# Altium footprint library MCU.PcbLib: 15 footprints
Each footprint in its own frame and in the unit in brackets; x right, y up, seen from the top. Pads: shape width x height; smd on the part's side, far side on the other; paste and mask are expansions set on the pad; w line width, h text height; cw(c..) or ccw(c..) is an arc to the next point about the centre after c.
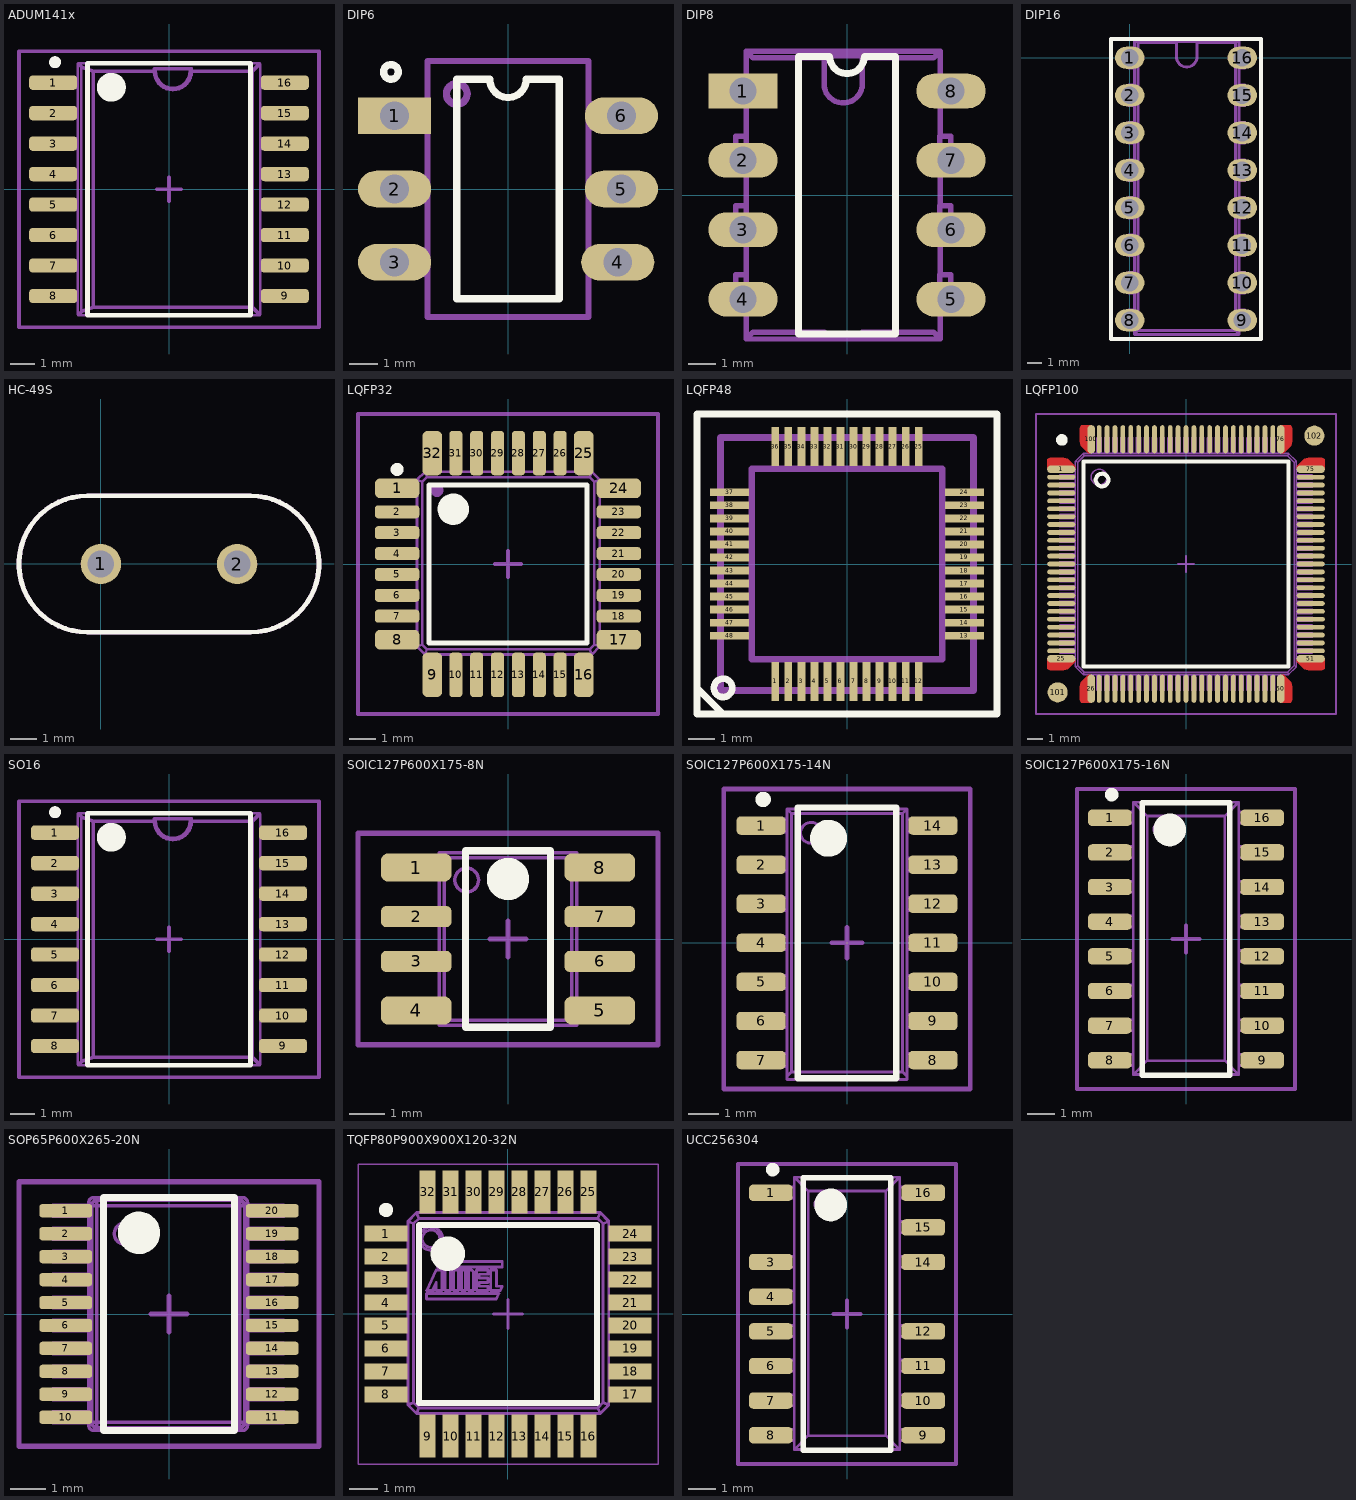
[diagram p0: the footprints below, top view; thin cyan lines are the x and y axes]

## ADUM141x [mm] "SOIC, 16-Leads, Body 10,30x7,50mm, Pitch 1,27mm, IPC Medium Density"
height 2.65
pads (16):
  rrect50% 2x0.6 smd: 1(-4.826,4.445) 2(-4.826,3.175) 3(-4.826,1.905) 4(-4.826,0.635) 5(-4.826,-0.635) 6(-4.826,-1.905) 7(-4.826,-3.175) 8(-4.826,-4.445) 9(4.826,-4.445) 10(4.826,-3.175) 11(4.826,-1.905) 12(4.826,-0.635) 13(4.826,0.635) 14(4.826,1.905) 15(4.826,3.175) 16(4.826,4.445)
Top Overlay:
  circle w0.25: c-4.75,5.295 r0.125
  circle w0.6: c-2.4,4.25 r0.3
  lines w0.2: -3.4,-5.25 -3.4,5.25 3.4,5.25 3.4,-5.25 -3.4,-5.25
TOPASSY:
  text ".Designator / .Comment" at -2.262,1.659 h1.02
Mechanical 13:
  drawing of 1172 lines, arcs and shapes, not listed
Mechanical 15:
  lines w0.15: -0.5,0 0.5,0 ; 0,-0.5 0,0.5 ; -6.25,-5.75 -6.25,5.75 6.25,5.75 6.25,-5.75 -6.25,-5.75
3D body "User Library-141x.step": height 2.5, standoff 0, extent -5.25,-5.25 5.25,5.25

## DIP6 [mm]
pads (6):
  rect 2.54x1.27 hole 1: 1(-3.937,2.54)
  oval 2.54x1.27 hole 1: 2(-3.937,0) 3(-3.937,-2.54) 4(3.81,-2.54) 5(3.937,0) 6(3.937,2.54)
Top Overlay:
  circle w0.254: c-4.064,4.064 r0.254
  lines w0.254: -1.778,-3.81 1.778,-3.81 1.778,3.81 0.635,3.81 cw(c0,3.81) -0.635,3.81 -1.778,3.81 -1.778,-3.81
TOPASSY:
  text ".Designator / .Comment" at 0.762,-2.159 h1.02
Mechanical 13:
  circle w0.254: c-1.778,3.302 r0.359
  rectangle: -4.318,2.032 -2.794,3.048
  rectangle: -4.318,-0.508 -2.794,0.508
  rectangle: -4.318,-3.048 -2.794,-2.032
  region: 4.318,0.508 2.794,0.508 2.794,-0.508 4.318,-0.508
  region: 4.318,-2.032 2.794,-2.032 2.794,-3.048 4.318,-3.048
  region: 4.318,3.048 2.794,3.048 2.794,2.032 4.318,2.032
  lines w0.2: -2.794,-4.445 -2.794,4.445 2.794,4.445 2.794,-4.445 -2.794,-4.445
3D body "User Library-MOC8050SR2M.STEP": height 4.03, standoff -1.09, extent -4.952,-4.445 4.952,4.445

## DIP8 [mm]
pads (8):
  rect 2.54x1.27 hole 1: 1(-3.81,3.81)
  oval 2.54x1.27 hole 1: 2(-3.81,1.27) 3(-3.81,-1.27) 4(-3.81,-3.81) 5(3.81,-3.81) 6(3.81,-1.27) 7(3.81,1.27) 8(3.81,3.81)
Top Overlay:
  lines w0.254: -1.778,-5.08 1.778,-5.08 1.778,5.08 0.635,5.08 cw(c0,5.08) -0.635,5.08 -1.778,5.08 -1.778,-5.08
TOPASSY:
  text ".Designator / .Comment" at 0.762,-2.159 h1.02
Mechanical 13:
  lines w0.2: -3.69,-4.315 -4.075,-4.315 ; -3.69,-3.88 -3.69,-5.27 ; 3.41,-4.315 3.795,-4.315 ; 3.41,-3.88 3.41,-5.27 ; -4.075,-4.315 -3.681,-4.315 -3.681,-2.925 -4.075,-2.925 ; -4.075,-4.315 -4.075,-2.925 ; -4.075,-4.315 -4.075,-2.925 ; -4.075,-2.925 -3.69,-2.925 ; -4.075,-1.775 -3.681,-1.775 -3.681,-0.385 -4.075,-0.385 ; -4.075,-1.775 -4.075,-0.385 ; -4.075,-1.775 -4.075,-0.385 ; -4.075,-1.775 -3.69,-1.775 ; -4.075,-0.385 -3.69,-0.385 ; -4.075,0.765 -3.681,0.765 -3.681,2.155 -4.075,2.155 ; -4.075,0.765 -4.075,2.155 ; -4.075,0.765 -4.075,2.155 ; -4.075,0.765 -3.69,0.765 ; -4.075,2.155 -3.69,2.155 ; -4.075,3.305 -3.681,3.305 -3.681,4.25 -4.075,4.25 ; -4.075,3.305 -4.075,4.25 ; -4.075,3.305 -4.075,4.25 ; -4.075,3.305 -3.69,3.305 ; -4.075,4.25 -3.69,4.25 ; -3.69,-5.27 3.41,-5.27 ; -3.69,-5.27 -3.44,-5.02 -0.84,-5.02 -0.84,-5.107 0.56,-5.107 0.56,-5.02 3.16,-5.02 3.41,-5.27 ; -3.69,-5.27 3.41,-5.27 ; -3.69,-2.925 -3.69,-1.775 ; -3.69,-2.925 -3.69,-1.775 ; -3.69,-0.385 -3.69,0.765 ; -3.69,-0.385 -3.69,0.765 ; -3.69,2.155 -3.69,3.305 ; -3.69,2.155 -3.69,3.305 ; -3.69,4.25 -3.69,5.27 ; -3.69,4.25 -3.69,5.27 ; -3.69,5.27 3.41,5.27 ; -3.69,5.27 -3.44,5.02 -0.84,5.02 ; -3.69,5.27 3.41,5.27 ; -0.84,5.02 -0.84,5.107 0.56,5.107 0.56,5.02 ; -0.84,5.02 -0.84,4.07 ccw(c-0.14,4.07) 0.56,4.07 0.56,5.02 ; 0.56,5.02 3.16,5.02 3.41,5.27 ; 3.41,-2.925 3.41,-1.775 ; 3.41,-2.925 3.795,-2.925 ; 3.41,-2.925 3.41,-1.775 ; 3.41,-1.775 3.795,-1.775 ; 3.41,-0.385 3.41,0.765 ; 3.41,-0.385 3.795,-0.385 ; 3.41,-0.385 3.41,0.765 ; 3.41,0.765 3.795,0.765 ; 3.41,2.155 3.41,3.305 ; 3.41,2.155 3.795,2.155 ; 3.41,2.155 3.41,3.305 ; 3.41,3.305 3.795,3.305 ; 3.41,4.25 3.41,5.27 ; 3.41,4.25 3.795,4.25 ; 3.41,4.25 3.41,5.27 ; 3.795,-4.315 3.401,-4.315 3.401,-2.925 3.795,-2.925 ; 3.795,-4.315 3.795,-2.925 ; 3.795,-4.315 3.795,-2.925 ; 3.795,-1.775 3.401,-1.775 3.401,-0.385 3.795,-0.385 ; 3.795,-1.775 3.795,-0.385 ; 3.795,-1.775 3.795,-0.385 ; 3.795,0.765 3.401,0.765 3.401,2.155 3.795,2.155 ; 3.795,0.765 3.795,2.155 ; 3.795,0.765 3.795,2.155 ; 3.795,3.305 3.795,4.25 ; 3.795,3.305 3.401,3.305 3.401,4.25 3.795,4.25 ; 3.795,3.305 3.795,4.25
3D body "CircuitWorks-DIP8.step": height 4.19, standoff -2.67, extent -3.937,-5.715 3.937,5.715

## DIP16 [mm]
pads (16):
  oval 2x1.5 hole 1.2 unplated paste-25.4: 1(0,0) 2(0,-2.54) 3(0,-5.08) 4(0,-7.62) 5(0,-10.16) 6(0,-12.7) 7(0,-15.24) 8(0,-17.78) 9(7.62,-17.78) 10(7.62,-15.24) 11(7.62,-12.7) 12(7.62,-10.16) 13(7.62,-7.62) 14(7.62,-5.08) 15(7.62,-2.54) 16(7.62,0)
Top Overlay:
  lines w0.254: -1.27,-19.05 -1.27,1.27 8.89,1.27 8.89,-19.05 -1.27,-19.05
TOPASSY:
  text ".Designator / .Comment" at 1.778,-8.89 h1.02
Mechanical 13:
  drawing of 167 lines, arcs and shapes, not listed
3D body "CircuitWorks-DIP 16 IC.step": height 5.1, standoff -3.3, extent -0.075,-19.017 7.795,0.983

## HC-49S [mm]
pads (2):
  round 1.5 hole 1: 1(0,0) 2(5.08,0)
Top Overlay:
  lines w0.178: -0.508,-2.54 cw(c-0.508,0) -0.508,2.54 5.588,2.54 cw(c5.588,0) 5.588,-2.54 -0.508,-2.54
TOPASSY:
  text ".Designator / .Comment" at 0.429,0.762 h1.02
Mechanical 13:
  lines w0.178: -0.508,-2.54 cw(c-0.508,0) -0.508,2.54 5.588,2.54 cw(c5.588,0) 5.588,-2.54 -0.508,-2.54
3D body "User Library-HC49_Crystal.step": height 3.6, standoff -12.7, extent -3.135,-2.325 8.215,2.325

## LQFP32 [mm] "LQFP, 32-Leads, Body 7,00x7,00mm, Pitch 0,80mm, IPC Medium Density"
height 1.2
pads (32):
  rrect50% 1.7x0.75 smd: 1(-4.25,2.9) 8(-4.25,-2.9) 17(4.25,-2.9) 24(4.25,2.9)
  rrect50% 1.7x0.5 smd: 2(-4.25,2) 3(-4.25,1.2) 4(-4.25,0.4) 5(-4.25,-0.4) 6(-4.25,-1.2) 7(-4.25,-2) 18(4.25,-2) 19(4.25,-1.2) 20(4.25,-0.4) 21(4.25,0.4) 22(4.25,1.2) 23(4.25,2)
  rrect50% 0.75x1.7 smd: 9(-2.9,-4.25) 16(2.9,-4.25) 25(2.9,4.25) 32(-2.9,4.25)
  rrect50% 0.5x1.7 smd: 10(-2,-4.25) 11(-1.2,-4.25) 12(-0.4,-4.25) 13(0.4,-4.25) 14(1.2,-4.25) 15(2,-4.25) 26(2,4.25) 27(1.2,4.25) 28(0.4,4.25) 29(-0.4,4.25) 30(-1.2,4.25) 31(-2,4.25)
Top Overlay:
  circle w0.25: c-4.25,3.625 r0.125
  circle w0.6: c-2.1,2.1 r0.3
  lines w0.2: -3.025,-3.025 3.025,-3.025 3.025,3.025 -3.025,3.025 -3.025,-3.025
TOPASSY:
  text ".Designator / .Comment" at -1.905,-0.635 h1.02
Mechanical 13:
  drawing of 313 lines, arcs and shapes, not listed
Mechanical 15:
  lines w0.15: -0.5,0 0.5,0 ; 0,-0.5 0,0.5 ; -5.75,-5.75 5.75,-5.75 5.75,5.75 -5.75,5.75 -5.75,-5.75
3D body "User Library-lqfp32-1.step": height 1.5, standoff 0.02, extent -4.5,-4.5 4.5,4.5

## LQFP48 [mm]
pads (48):
  rect 0.3x1.5 smd: 1(-2.75,-4.5) 2(-2.25,-4.5) 3(-1.75,-4.5) 4(-1.25,-4.5) 5(-0.75,-4.5) 6(-0.25,-4.5) 7(0.25,-4.5) 8(0.75,-4.5) 9(1.25,-4.5) 10(1.75,-4.5) 11(2.25,-4.5) 12(2.75,-4.5) 25(2.75,4.5) 26(2.25,4.5) 27(1.75,4.5) 28(1.25,4.5) 29(0.75,4.5) 30(0.25,4.5) 31(-0.25,4.5) 32(-0.75,4.5) 33(-1.25,4.5) 34(-1.75,4.5) 35(-2.25,4.5) 36(-2.75,4.5)
  rect 1.5x0.3 smd: 13(4.5,-2.75) 14(4.5,-2.25) 15(4.5,-1.75) 16(4.5,-1.25) 17(4.5,-0.75) 18(4.5,-0.25) 19(4.5,0.25) 20(4.5,0.75) 21(4.5,1.25) 22(4.5,1.75) 23(4.5,2.25) 24(4.5,2.75) 37(-4.5,2.75) 38(-4.5,2.25) 39(-4.5,1.75) 40(-4.5,1.25) 41(-4.5,0.75) 42(-4.5,0.25) 43(-4.5,-0.25) 44(-4.5,-0.75) 45(-4.5,-1.25) 46(-4.5,-1.75) 47(-4.5,-2.25) 48(-4.5,-2.75)
Top Overlay:
  circle w0.254: c-4.75,-4.75 r0.354
  lines w0.254: -5.75,-4.75 -4.75,-5.75 ; -5.75,-5.75 -5.75,-3.5 -5.75,5.75 -5,5.75 5.75,5.75 5.75,-5.75 -5.75,-5.75
TOPASSY:
  lines w0.254: -4.85,-4.85 4.85,-4.85 4.85,0 4.85,4.85 -4.85,4.85 -4.85,-4.85 ; -3.65,-3.65 3.65,-3.65 3.65,0 3.65,3.65 -3.65,3.65 -3.65,-3.65

## LQFP100 [mm]
pads (110):
  oval 1.78x0.5 smd: 1(-7.9,6) 25(-7.9,-6) 51(7.9,-6) 75(7.9,6)
  round 0 smd paste-25.4 mask-25.4: 1(-7.9,6) 25(-7.9,-6) 26(-6,-7.9) 50(6,-7.9) 51(7.9,-6) 75(7.9,6) 76(6,7.9) 100(-6,7.9)
  oval 1.78x0.3 smd: 2(-7.9,5.5) 3(-7.9,5) 4(-7.9,4.5) 5(-7.9,4) 6(-7.9,3.5) 7(-7.9,3) 8(-7.9,2.5) 9(-7.9,2) 10(-7.9,1.5) 11(-7.9,1) 12(-7.9,0.5) 13(-7.9,0) 14(-7.9,-0.5) 15(-7.9,-1) 16(-7.9,-1.5) 17(-7.9,-2) 18(-7.9,-2.5) 19(-7.9,-3) 20(-7.9,-3.5) 21(-7.9,-4) 22(-7.9,-4.5) 23(-7.9,-5) 24(-7.9,-5.5) 52(7.9,-5.5) 53(7.9,-5) 54(7.9,-4.5) 55(7.9,-4) 56(7.9,-3.5) 57(7.9,-3) 58(7.9,-2.5) 59(7.9,-2) 60(7.9,-1.5) 61(7.9,-1) 62(7.9,-0.5) 63(7.9,0) 64(7.9,0.5) 65(7.9,1) 66(7.9,1.5) 67(7.9,2) 68(7.9,2.5) 69(7.9,3) 70(7.9,3.5) 71(7.9,4) 72(7.9,4.5) 73(7.9,5) 74(7.9,5.5)
  oval 0.5x1.78 smd: 26(-6,-7.9) 50(6,-7.9) 76(6,7.9) 100(-6,7.9)
  oval 0.3x1.78 smd: 27(-5.5,-7.9) 28(-5,-7.9) 29(-4.5,-7.9) 30(-4,-7.9) 31(-3.5,-7.9) 32(-3,-7.9) 33(-2.5,-7.9) 34(-2,-7.9) 35(-1.5,-7.9) 36(-1,-7.9) 37(-0.5,-7.9) 38(0,-7.9) 39(0.5,-7.9) 40(1,-7.9) 41(1.5,-7.9) 42(2,-7.9) 43(2.5,-7.9) 44(3,-7.9) 45(3.5,-7.9) 46(4,-7.9) 47(4.5,-7.9) 48(5,-7.9) 49(5.5,-7.9) 77(5.5,7.9) 78(5,7.9) 79(4.5,7.9) 80(4,7.9) 81(3.5,7.9) 82(3,7.9) 83(2.5,7.9) 84(2,7.9) 85(1.5,7.9) 86(1,7.9) 87(0.5,7.9) 88(0,7.9) 89(-0.5,7.9) 90(-1,7.9) 91(-1.5,7.9) 92(-2,7.9) 93(-2.5,7.9) 94(-3,7.9) 95(-3.5,7.9) 96(-4,7.9) 97(-4.5,7.9) 98(-5,7.9) 99(-5.5,7.9)
  round 1.27 smd mask-25.4: 101(-8.128,-8.128) 102(8.128,8.128)
Top Layer:
  region: -7.01,-6.137 -7.021,-6.191 -7.051,-6.236 -7.389,-6.574 -7.492,-6.653 -7.613,-6.703 -7.742,-6.72 -8.642,-6.72 -8.699,-6.709 -8.747,-6.677 -8.779,-6.629 -8.79,-6.573 -8.79,-6.008 -7.01,-6
  region: -7.01,6.137 -7.021,6.191 -7.051,6.236 -7.389,6.574 -7.492,6.653 -7.613,6.703 -7.742,6.72 -8.642,6.72 -8.699,6.709 -8.747,6.677 -8.779,6.629 -8.79,6.573 -8.79,6.008 -7.01,6
  region: -6.137,7.01 -6.191,7.021 -6.236,7.051 -6.574,7.389 -6.653,7.492 -6.703,7.613 -6.72,7.742 -6.72,8.642 -6.709,8.699 -6.677,8.747 -6.629,8.779 -6.573,8.79 -6.008,8.79 -6,7.01
  region: 6.137,7.01 6.191,7.021 6.236,7.051 6.574,7.389 6.653,7.492 6.703,7.613 6.72,7.742 6.72,8.642 6.709,8.699 6.677,8.747 6.629,8.779 6.573,8.79 6.008,8.79 6,7.01
  region: 7.01,6.137 7.021,6.191 7.051,6.236 7.389,6.574 7.492,6.653 7.613,6.703 7.742,6.72 8.643,6.72 8.699,6.709 8.747,6.677 8.779,6.629 8.79,6.573 8.79,6.008 7.01,6
  region: 7.01,-6.137 7.021,-6.191 7.051,-6.236 7.389,-6.574 7.492,-6.653 7.613,-6.703 7.742,-6.72 8.643,-6.72 8.699,-6.709 8.747,-6.677 8.779,-6.629 8.79,-6.573 8.79,-6.008 7.01,-6
  region: 6.137,-7.01 6.191,-7.021 6.236,-7.051 6.574,-7.389 6.653,-7.492 6.703,-7.613 6.72,-7.742 6.72,-8.642 6.709,-8.699 6.677,-8.747 6.629,-8.779 6.573,-8.79 6.008,-8.79 6,-7.01
  region: -6.137,-7.01 -6.191,-7.021 -6.236,-7.051 -6.574,-7.389 -6.653,-7.492 -6.703,-7.613 -6.72,-7.742 -6.72,-8.642 -6.709,-8.699 -6.677,-8.747 -6.629,-8.779 -6.573,-8.79 -6.008,-8.79 -6,-7.01
Top Overlay:
  circle w0.254: c-5.318,5.318 r0.4
  circle w0.4: c-7.858,7.858 r0.168
  lines w0.254: -6.477,-6.477 -6.477,6.477 6.477,6.477 6.477,-6.477 -6.477,-6.477
Top Solder:
  region: -8.128,-6.847 -8.46,-6.891 -8.768,-7.019 -9.034,-7.222 -9.237,-7.488 -9.365,-7.796 -9.409,-8.128 -9.365,-8.46 -9.237,-8.768 -9.034,-9.034 -8.768,-9.237 -8.46,-9.365 -8.128,-9.409 -7.796,-9.365 -7.488,-9.237 -7.222,-9.034 -7.019,-8.768 -6.891,-8.46 -6.847,-8.128 -6.891,-7.796 -7.019,-7.488 -7.222,-7.222 -7.488,-7.019 -7.796,-6.891
  region: 8.128,9.409 7.796,9.365 7.488,9.237 7.222,9.034 7.019,8.768 6.891,8.46 6.847,8.128 6.891,7.796 7.019,7.488 7.222,7.222 7.488,7.019 7.796,6.891 8.128,6.847 8.46,6.891 8.768,7.019 9.034,7.222 9.237,7.488 9.365,7.796 9.409,8.128 9.365,8.46 9.237,8.768 9.034,9.034 8.768,9.237 8.46,9.365
Mechanical 13:
  drawing of 4025 lines, arcs and shapes, not listed
Mechanical 15:
  lines w0.15: -0.5,0 0.5,0 ; 0,-0.5 0,0.5 ; -9.5,-9.5 9.5,-9.5 9.5,9.5 -9.5,9.5 -9.5,-9.5
3D body "User Library-LQFP100_Grid_0_5.STEP": height 1.6, standoff 0, extent -8,-8.004 8,7.996

## SO16 [mm] "SOIC, 16-Leads, Body 10,30x7,50mm, Pitch 1,27mm, IPC Medium Density"
height 2.65
pads (16):
  rrect50% 2x0.6 smd: 1(-4.75,4.445) 2(-4.75,3.175) 3(-4.75,1.905) 4(-4.75,0.635) 5(-4.75,-0.635) 6(-4.75,-1.905) 7(-4.75,-3.175) 8(-4.75,-4.445) 9(4.75,-4.445) 10(4.75,-3.175) 11(4.75,-1.905) 12(4.75,-0.635) 13(4.75,0.635) 14(4.75,1.905) 15(4.75,3.175) 16(4.75,4.445)
Top Overlay:
  circle w0.25: c-4.75,5.295 r0.125
  circle w0.6: c-2.4,4.25 r0.3
  lines w0.2: -3.4,-5.25 -3.4,5.25 3.4,5.25 3.4,-5.25 -3.4,-5.25
TOPASSY:
  text ".Designator / .Comment" at -2.262,1.659 h1.02
Mechanical 13:
  drawing of 1172 lines, arcs and shapes, not listed
Mechanical 15:
  lines w0.15: -0.5,0 0.5,0 ; 0,-0.5 0,0.5 ; -6.25,-5.75 -6.25,5.75 6.25,5.75 6.25,-5.75 -6.25,-5.75
3D body "User Library-SOIC16_Wide_JEDEC_MS-013AA.step": height 2.63, standoff -0.02, extent -5.315,-5.25 5.315,5.25

## SOIC127P600X175-8N [mm] "SOIC, 8-Leads, Body 4,90x3,90mm, Pitch 1,27mm, IPC Medium Density"
height 1.75
pads (8):
  rrect50% 2x0.8 smd: 1(-2.6,2.025) 4(-2.6,-2.025) 5(2.6,-2.025) 8(2.6,2.025)
  rrect50% 2x0.6 smd: 2(-2.6,0.635) 3(-2.6,-0.635) 6(2.6,-0.635) 7(2.6,0.635)
Top Overlay:
  circle w0.6: c0,1.7 r0.3
  lines w0.2: -1.2,-2.5 1.2,-2.5 1.2,2.5 -1.2,2.5 -1.2,-2.5
Mechanical 13:
  circle w0.1: c-1.17,1.67 r0.338
  lines w0.1: -2.631,-2.115 -2.631,-1.695 ; -2.631,-2.115 -3,-2.115 -3,-1.695 -2.631,-1.695 ; -2.631,-2.115 -2.543,-2.115 ; -2.631,-1.695 -2.543,-1.695 ; -2.631,-0.845 -2.631,-0.425 ; -2.631,-0.845 -3,-0.845 -3,-0.425 -2.631,-0.425 ; -2.631,-0.845 -2.543,-0.845 ; -2.631,-0.425 -2.543,-0.425 ; -2.631,0.425 -2.631,0.845 ; -2.631,0.425 -3,0.425 -3,0.845 -2.631,0.845 ; -2.631,0.425 -2.543,0.425 ; -2.631,0.845 -2.543,0.845 ; -2.631,1.695 -2.631,2.115 ; -2.631,1.695 -3,1.695 -3,2.115 -2.631,2.115 ; -2.631,1.695 -2.543,1.695 ; -2.631,2.115 -2.543,2.115 ; -2.543,-2.115 -2.543,-1.695 ; -2.543,-2.115 -2.403,-2.115 ; -2.543,-1.695 -2.403,-1.695 ; -2.543,-0.845 -2.543,-0.425 ; -2.543,-0.845 -2.403,-0.845 ; -2.543,-0.425 -2.403,-0.425 ; -2.543,0.425 -2.543,0.845 ; -2.543,0.425 -2.403,0.425 ; -2.543,0.845 -2.403,0.845 ; -2.543,1.695 -2.543,2.115 ; -2.543,1.695 -2.403,1.695 ; -2.543,2.115 -2.403,2.115 ; -2.403,-2.115 -2.403,-1.695 ; -2.403,-2.115 -2.113,-2.115 ; -2.403,-1.695 -2.113,-1.695 ; -2.403,-0.845 -2.403,-0.425 ; -2.403,-0.845 -2.113,-0.845 ; -2.403,-0.425 -2.113,-0.425 ; -2.403,0.425 -2.403,0.845 ; -2.403,0.425 -2.113,0.425 ; -2.403,0.845 -2.113,0.845 ; -2.403,1.695 -2.403,2.115 ; -2.403,1.695 -2.113,1.695 ; -2.403,2.115 -2.113,2.115 ; -2.113,-2.115 -2.113,-1.695 ; -2.113,-2.115 -1.95,-2.115 ; -2.113,-1.695 -1.95,-1.695 ; -2.113,-0.845 -2.113,-0.425 ; -2.113,-0.845 -1.95,-0.845 ; -2.113,-0.425 -1.95,-0.425 ; -2.113,0.425 -2.113,0.845 ; -2.113,0.425 -1.95,0.425 ; -2.113,0.845 -1.95,0.845 ; -2.113,1.695 -2.113,2.115 ; -2.113,1.695 -1.95,1.695 ; -2.113,2.115 -1.95,2.115 ; -1.95,-2.45 1.95,-2.45 ; -1.95,-2.45 -1.95,-2.115 ; -1.95,-2.45 -1.801,-2.301 ; -1.95,-2.115 -1.95,-1.695 ; -1.95,-1.695 -1.95,-0.845 ; -1.95,-0.845 -1.95,-0.425 ; -1.95,-0.425 -1.95,0.425 ; -1.95,0.425 -1.95,0.845 ; -1.95,0.845 -1.95,1.695 ; -1.95,1.695 -1.95,2.115 ; -1.95,2.115 -1.95,2.45 ; -1.95,2.45 -1.801,2.301 ; -1.95,2.45 1.95,2.45 ; -1.801,-2.301 1.801,-2.301 ; -1.801,-2.301 -1.801,2.301 ; -1.801,2.301 1.801,2.301 ; 1.801,-2.301 1.95,-2.45 ; 1.801,-2.301 1.801,2.301 ; 1.801,2.301 1.95,2.45 ; 1.95,-2.45 1.95,-2.115 ; 1.95,-2.115 2.113,-2.115 ; 1.95,-2.115 1.95,-1.695 ; 1.95,-1.695 2.113,-1.695 ; 1.95,-1.695 1.95,-0.845 ; 1.95,-0.845 2.113,-0.845 ; 1.95,-0.845 1.95,-0.425 ; 1.95,-0.425 2.113,-0.425 ; 1.95,-0.425 1.95,0.425 ; 1.95,0.425 2.113,0.425 ; 1.95,0.425 1.95,0.845 ; 1.95,0.845 2.113,0.845 ; 1.95,0.845 1.95,1.695 ; 1.95,1.695 2.113,1.695 ; 1.95,1.695 1.95,2.115 ; 1.95,2.115 2.113,2.115 ; 1.95,2.115 1.95,2.45 ; 2.113,-2.115 2.113,-1.695 ; 2.113,-2.115 2.403,-2.115 ; 2.113,-1.695 2.403,-1.695 ; 2.113,-0.845 2.113,-0.425 ; 2.113,-0.845 2.403,-0.845 ; 2.113,-0.425 2.403,-0.425 ; 2.113,0.425 2.113,0.845 ; 2.113,0.425 2.403,0.425 ; 2.113,0.845 2.403,0.845 ; 2.113,1.695 2.113,2.115 ; 2.113,1.695 2.403,1.695 ; 2.113,2.115 2.403,2.115 ; 2.403,-2.115 2.403,-1.695 ; 2.403,-2.115 2.543,-2.115 ; 2.403,-1.695 2.543,-1.695 ; 2.403,-0.845 2.403,-0.425 ; 2.403,-0.845 2.543,-0.845 ; 2.403,-0.425 2.543,-0.425 ; 2.403,0.425 2.403,0.845 ; 2.403,0.425 2.543,0.425 ; 2.403,0.845 2.543,0.845 ; 2.403,1.695 2.403,2.115 ; 2.403,1.695 2.543,1.695 ; 2.403,2.115 2.543,2.115 ; 2.543,-2.115 2.543,-1.695 ; 2.543,-2.115 2.631,-2.115 ; 2.543,-1.695 2.631,-1.695 ; 2.543,-0.845 2.543,-0.425 ; 2.543,-0.845 2.631,-0.845 ; 2.543,-0.425 2.631,-0.425 ; 2.543,0.425 2.543,0.845 ; 2.543,0.425 2.631,0.425 ; 2.543,0.845 2.631,0.845 ; 2.543,1.695 2.543,2.115 ; 2.543,1.695 2.631,1.695 ; 2.543,2.115 2.631,2.115 ; 2.631,-2.115 2.631,-1.695 ; 2.631,-2.115 3,-2.115 3,-1.695 2.631,-1.695 ; 2.631,-0.845 2.631,-0.425 ; 2.631,-0.845 3,-0.845 3,-0.425 2.631,-0.425 ; 2.631,0.425 2.631,0.845 ; 2.631,0.425 3,0.425 3,0.845 2.631,0.845 ; 2.631,1.695 2.631,2.115 ; 2.631,1.695 3,1.695 3,2.115 2.631,2.115
Mechanical 15:
  lines w0.15: -0.5,0 0.5,0 ; 0,-0.5 0,0.5 ; -4.25,-3 4.25,-3 4.25,3 -4.25,3 -4.25,-3
3D body "User Library-SOIC-8-1.step": height 1.75, standoff 0, extent -3,-2.45 3,2.45

## SOIC127P600X175-14N [mm] "SOIC, 14-Leads, Body 8,65x3,90mm, Pitch 1,27mm, IPC Medium Density"
height 1.75
pads (14):
  rrect50% 1.6x0.6 smd: 1(-2.794,3.81) 2(-2.794,2.54) 3(-2.794,1.27) 4(-2.794,0) 5(-2.794,-1.27) 6(-2.794,-2.54) 7(-2.794,-3.81) 8(2.794,-3.81) 9(2.794,-2.54) 10(2.794,-1.27) 11(2.794,0) 12(2.794,1.27) 13(2.794,2.54) 14(2.794,3.81)
Top Overlay:
  circle w0.25: c-2.725,4.66 r0.125
  circle w0.6: c-0.6,3.4 r0.3
  lines w0.2: -1.6,-4.4 -1.6,4.4 1.6,4.4 1.6,-4.4 -1.6,-4.4
TOPASSY:
  text ".Designator / .Comment" at 0.762,-2.159 h1.02
Mechanical 13:
  drawing of 246 lines, arcs and shapes, not listed
Mechanical 15:
  lines w0.15: -0.5,0 0.5,0 ; 0,-0.5 0,0.5 ; -4,-4.75 -4,5 4,5 4,-4.75 -4,-4.75
3D body "User Library-SOIC14_JEDEC_MS-012AB.step": height 1.75, standoff -0.01, extent -3.099,-4.375 3.1,4.375

## SOIC127P600X175-16N [mm] "SOIC, 16-Leads, Body 9,90x3,90mm, Pitch 1,27mm, IPC Medium Density"
height 1.75
pads (16):
  rrect50% 1.6x0.6 smd: 1(-2.794,4.445) 2(-2.794,3.175) 3(-2.794,1.905) 4(-2.794,0.635) 5(-2.794,-0.635) 6(-2.794,-1.905) 7(-2.794,-3.175) 8(-2.794,-4.445) 9(2.794,-4.445) 10(2.794,-3.175) 11(2.794,-1.905) 12(2.794,-0.635) 13(2.794,0.635) 14(2.794,1.905) 15(2.794,3.175) 16(2.794,4.445)
Top Overlay:
  circle w0.6: c-0.6,4 r0.3
  circle w0.25: c-2.725,5.295 r0.125
  lines w0.2: -1.6,-5 1.6,-5 1.6,5 -1.6,5 -1.6,-5
TOPASSY:
  text ".Designator / .Comment" at 0.762,-2.159 h1.02
Mechanical 13:
  drawing of 273 lines, arcs and shapes, not listed
Mechanical 15:
  lines w0.15: -0.5,0 0.5,0 ; 0,-0.5 0,0.5 ; -4,-5.5 4,-5.5 4,5.5 -4,5.5 -4,-5.5
3D body "CircuitWorks-SO-16.step": height 1.45, standoff 0, extent -2.921,-4.991 2.984,4.991

## SOP65P600X265-20N [mm] "SOP, 20-Leads, Body 6,50x4,40mm, Pitch 0,65mm, IPC Medium Density"
height 2.65
pads (20):
  rrect50% 1.5x0.38 smd mask+0.075: 1(-2.925,2.925) 2(-2.925,2.275) 3(-2.925,1.625) 4(-2.925,0.975) 5(-2.925,0.325) 6(-2.925,-0.325) 7(-2.925,-0.975) 8(-2.925,-1.625) 9(-2.925,-2.275) 10(-2.925,-2.925) 11(2.925,-2.925) 12(2.925,-2.275) 13(2.925,-1.625) 14(2.925,-0.975) 15(2.925,-0.325) 16(2.925,0.325) 17(2.925,0.975) 18(2.925,1.625) 19(2.925,2.275) 20(2.925,2.925)
Top Overlay:
  circle w0.6: c-0.85,2.3 r0.3
  lines w0.2: -1.85,-3.3 1.85,-3.3 1.85,3.3 -1.85,3.3 -1.85,-3.3
TOPASSY:
  text ".Designator / .Comment" at 0.762,-2.159 h1.02
Mechanical 13:
  drawing of 315 lines, arcs and shapes, not listed
Mechanical 15:
  lines w0.15: -0.5,0 0.5,0 ; 0,-0.5 0,0.5 ; -4.25,-3.75 4.25,-3.75 4.25,3.75 -4.25,3.75 -4.25,-3.75
3D body "User Library-TSSOP-20.step": height 1.2, standoff 0, extent -3.275,-3.3 3.275,3.3

## TQFP80P900X900X120-32N [mm] "TQFP, 32-Leads, Body 7,00x7,00mm, Pitch 0,80mm, IPC Medium Density"
height 1.2
pads (32):
  rect 1.5x0.55 smd: 1(-4.25,2.8) 2(-4.25,2) 3(-4.25,1.2) 4(-4.25,0.4) 5(-4.25,-0.4) 6(-4.25,-1.2) 7(-4.25,-2) 8(-4.25,-2.8) 17(4.25,-2.8) 18(4.25,-2) 19(4.25,-1.2) 20(4.25,-0.4) 21(4.25,0.4) 22(4.25,1.2) 23(4.25,2) 24(4.25,2.8)
  rect 0.55x1.5 smd: 9(-2.8,-4.25) 10(-2,-4.25) 11(-1.2,-4.25) 12(-0.4,-4.25) 13(0.4,-4.25) 14(1.2,-4.25) 15(2,-4.25) 16(2.8,-4.25) 25(2.8,4.25) 26(2,4.25) 27(1.2,4.25) 28(0.4,4.25) 29(-0.4,4.25) 30(-1.2,4.25) 31(-2,4.25) 32(-2.8,4.25)
Top Overlay:
  circle w0.25: c-4.25,3.625 r0.125
  circle w0.6: c-2.1,2.1 r0.3
  lines w0.2: -3.1,-3.1 -3.1,3.1 3.1,3.1 3.1,-3.1 -3.1,-3.1
TOPASSY:
  text ".Designator / .Comment" at -2.159,-1.662 h1.02
Mechanical 13:
  drawing of 370 lines, arcs and shapes, not listed
Mechanical 15:
  lines w0.05: -5.225,-5.225 -5.225,5.225 5.225,5.225 5.225,-5.225 -5.225,-5.225
  lines w0.1: -0.5,0 0.5,0 ; 0,-0.5 0,0.5
3D body "User Library-Atmel Atmega 48p Case 32A.step": height 1.15, standoff -0.05, extent -4.506,-4.506 4.506,4.506

## UCC256304 [mm] "SOIC, 16-Leads, UCC256304"
height 1.75
pads (14):
  rrect50% 1.6x0.6 smd: 1(-2.794,4.445) 3(-2.794,1.905) 4(-2.794,0.635) 5(-2.794,-0.635) 6(-2.794,-1.905) 7(-2.794,-3.175) 8(-2.794,-4.445) 9(2.794,-4.445) 10(2.794,-3.175) 11(2.794,-1.905) 12(2.794,-0.635) 14(2.794,1.905) 15(2.794,3.175) 16(2.794,4.445)
Top Overlay:
  circle w0.25: c-2.725,5.295 r0.125
  circle w0.6: c-0.6,4 r0.3
  lines w0.2: -1.6,-5 -1.6,5 1.6,5 1.6,-5 -1.6,-5
TOPASSY:
  text ".Designator / .Comment" at 0.762,-2.159 h1.02
Mechanical 13:
  drawing of 243 lines, arcs and shapes, not listed
Mechanical 15:
  lines w0.15: -0.5,0 0.5,0 ; 0,-0.5 0,0.5 ; -4,-5.5 -4,5.5 4,5.5 4,-5.5 -4,-5.5
3D body "CircuitWorks-SO-16.step": height 1.45, standoff 0, extent -2.921,-4.991 2.984,4.991